# Altium footprint library TPU.PcbLib: 1 footprints
Each footprint in its own frame and in the unit in brackets; x right, y up, seen from the top. Pads: shape width x height; smd on the part's side, far side on the other; paste and mask are expansions set on the pad; w line width, h text height; cw(c..) or ccw(c..) is an arc to the next point about the centre after c.
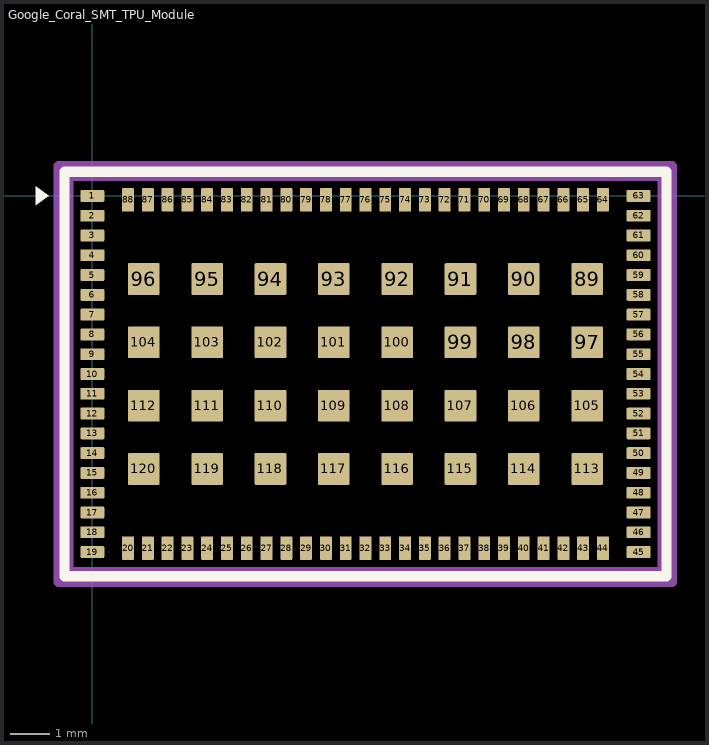
[diagram p0: the footprint, top view; thin cyan lines are the x and y axes]

## Google_Coral_SMT_TPU_Module [mm]
pads (120):
  rrect17% 0.6x0.3 smd: 1(0,0) 2(0,-0.5) 3(0,-1) 4(0,-1.5) 5(0,-2) 6(0,-2.5) 7(0,-3) 8(0,-3.5) 9(0,-4) 10(0,-4.5) 11(0,-5) 12(0,-5.5) 13(0,-6) 14(0,-6.5) 15(0,-7) 16(0,-7.5) 17(0,-8) 18(0,-8.5) 19(0,-9) 45(13.8,-9) 46(13.8,-8.5) 47(13.8,-8) 48(13.8,-7.5) 49(13.8,-7) 50(13.8,-6.5) 51(13.8,-6) 52(13.8,-5.5) 53(13.8,-5) 54(13.8,-4.5) 55(13.8,-4) 56(13.8,-3.5) 57(13.8,-3) 58(13.8,-2.5) 59(13.8,-2) 60(13.8,-1.5) 61(13.8,-1) 62(13.8,-0.5) 63(13.8,0)
  rrect17% 0.3x0.6 smd: 20(0.9,-8.9) 21(1.4,-8.9) 22(1.9,-8.9) 23(2.4,-8.9) 24(2.9,-8.9) 25(3.4,-8.9) 26(3.9,-8.9) 27(4.4,-8.9) 28(4.9,-8.9) 29(5.4,-8.9) 30(5.9,-8.9) 31(6.4,-8.9) 32(6.9,-8.9) 33(7.4,-8.9) 34(7.9,-8.9) 35(8.4,-8.9) 36(8.9,-8.9) 37(9.4,-8.9) 38(9.9,-8.9) 39(10.4,-8.9) 40(10.9,-8.9) 41(11.4,-8.9) 42(11.9,-8.9) 43(12.4,-8.9) 44(12.9,-8.9) 64(12.9,-0.1) 65(12.4,-0.1) 66(11.9,-0.1) 67(11.4,-0.1) 68(10.9,-0.1) 69(10.4,-0.1) 70(9.9,-0.1) 71(9.4,-0.1) 72(8.9,-0.1) 73(8.4,-0.1) 74(7.9,-0.1) 75(7.4,-0.1) 76(6.9,-0.1) 77(6.4,-0.1) 78(5.9,-0.1) 79(5.4,-0.1) 80(4.9,-0.1) 81(4.4,-0.1) 82(3.9,-0.1) 83(3.4,-0.1) 84(2.9,-0.1) 85(2.4,-0.1) 86(1.9,-0.1) 87(1.4,-0.1) 88(0.9,-0.1)
  rrect6% 0.8x0.8 smd: 89(12.5,-2.1) 90(10.9,-2.1) 91(9.3,-2.1) 92(7.7,-2.1) 93(6.1,-2.1) 94(4.5,-2.1) 95(2.9,-2.1) 96(1.3,-2.1) 97(12.5,-3.7) 98(10.9,-3.7) 99(9.3,-3.7) 100(7.7,-3.7) 101(6.1,-3.7) 102(4.5,-3.7) 103(2.9,-3.7) 104(1.3,-3.7) 105(12.5,-5.3) 106(10.9,-5.3) 107(9.3,-5.3) 108(7.7,-5.3) 109(6.1,-5.3) 110(4.5,-5.3) 111(2.9,-5.3) 112(1.3,-5.3) 113(12.5,-6.9) 114(10.9,-6.9) 115(9.3,-6.9) 116(7.7,-6.9) 117(6.1,-6.9) 118(4.5,-6.9) 119(2.9,-6.9) 120(1.3,-6.9)
F.SilkS:
  region: -1.1,0 -1.43,-0.24 -1.43,0.24
  lines w0.254: 14.51,-9.61 -0.71,-9.61 -0.71,0.61 14.51,0.61 ; 14.51,-9.6 14.51,0.6
F.CrtYd:
  lines w0.254: -0.85,-9.75 -0.85,0.75 14.65,0.75 14.65,-9.75 -0.85,-9.75
F.Fab:
  lines w0.254: -0.6,-9.5 -0.6,0.5 14.4,0.5 14.4,-9.5 -0.6,-9.5
  text "'.Designator'" at 1,-5.598 h1